# Altium schematic symbol library 1241.1601.11.SchLib: 1 symbol
Pins are listed as number, name and electrical type; pins without a type are passive.

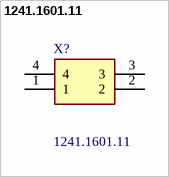
[diagram p0: symbol 1241.1601.11]

## 1241.1601.11
designator X?
Tactile Switch, SPST-NO 50 mA 1.3mm; Manufacturer_Name: SCHURTER; Geometry.Height: 4.95mm; Mouser Part Number: 693-1241.1601.11; Mouser Price/Stock: https://www.mouser.co.uk/ProductDetail/Schurter/1241.1601.11?qs=JHn%2F0Af%2Fl5F%252BolDciTzQ0A%3D%3D; Manufacturer_Part_Number: 1241.1601.11; Datasheet Link: https://componentsearchengine.com/Datasheets/1/1241.1601.11.pdf
footprint 1241160111
pins: 1, 2, 3, 4